# Altium schematic symbol library Schematic library.SchLib: 10 symbols
Pins are listed as number, name and electrical type; pins without a type are passive.

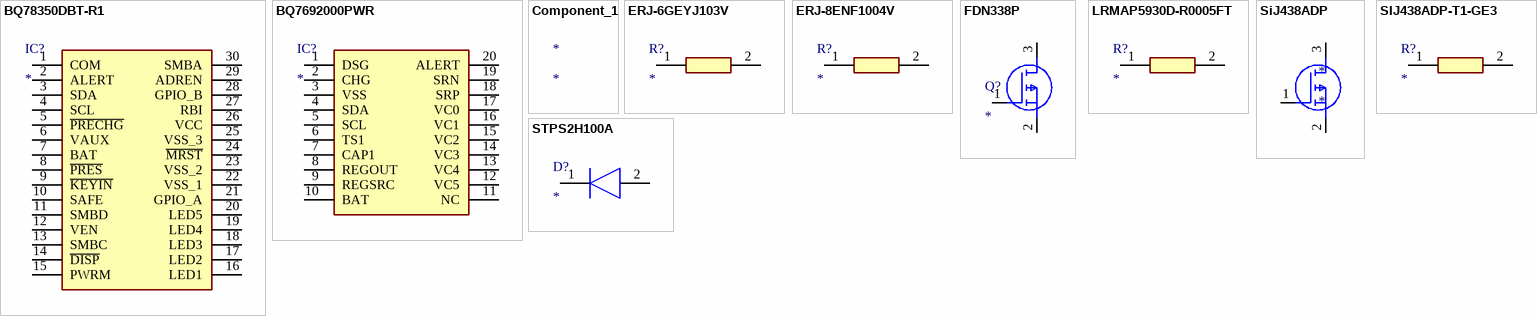
[diagram p0: symbols BQ78350DBT-R1 to STPS2H100A]

## BQ78350DBT-R1
designator IC?
Integrated Circuit; Manufacturer_Name: Texas Instruments; Manufacturer_Part_Number: BQ78350DBT-R1; Datasheet Link: http://www.ti.com/lit/ds/symlink/bq78350-r1.pdf; Height: 1.2mm; Mouser Part Number: 595-BQ78350DBT-R1; Mouser Price/Stock: https://www.mouser.co.uk/ProductDetail/Texas-Instruments/BQ78350DBT-R1?qs=yajEpaT76uQsatHsVfjOmw%3D%3D; Arrow Part Number: BQ78350DBT-R1; Arrow Price/Stock: https://www.arrow.com/en/products/bq78350dbt-r1/texas-instruments
footprint SOP50P640X120-30N
pins: 1 COM, 2 ALERT, 3 SDA, 4 SCL, 5 ~{PRECHG}, 6 VAUX, 7 BAT, 8 ~{PRES}, 9 ~{KEYIN}, 10 SAFE, 11 SMBD, 12 VEN, 13 SMBC, 14 ~{DISP}, 15 PWRM, 16 LED1, 17 LED2, 18 LED3, 19 LED4, 20 LED5, 21 GPIO_A, 22 VSS_1, 23 VSS_2, 24 ~{MRST}, 25 VSS_3, 26 VCC, 27 RBI, 28 GPIO_B, 29 ADREN, 30 SMBA

## BQ7692000PWR
designator IC?
Integrated Circuit; Manufacturer_Name: Texas Instruments; Manufacturer_Part_Number: BQ7692000PWR; Datasheet Link: http://www.ti.com/lit/gpn/bq76920; Height: 1.2mm; Mouser Part Number: 595-BQ7692000PWR; Mouser Price/Stock: https://www.mouser.co.uk/ProductDetail/Texas-Instruments/BQ7692000PWR?qs=%2Fd%252BFzHvH4c0MjFeRoItEJg%3D%3D; Arrow Part Number: BQ7692000PWR; Arrow Price/Stock: https://www.arrow.com/en/products/bq7692000pwr/texas-instruments
footprint SOP65P640X120-20N
pins: 1 DSG, 2 CHG, 3 VSS, 4 SDA, 5 SCL, 6 TS1, 7 CAP1, 8 REGOUT, 9 REGSRC, 10 BAT, 11 NC, 12 VC5, 13 VC4, 14 VC3, 15 VC2, 16 VC1, 17 VC0, 18 SRP, 19 SRN, 20 ALERT

## Component_1
designator *

## ERJ-6GEYJ103V
designator R?
Resistor; Manufacturer_Name: Panasonic; Manufacturer_Part_Number: ERJ-6GEYJ103V; Height: 0.7mm
footprint RESC2012X70N
pins: 1, 2

## ERJ-8ENF1004V
designator R?
Resistor; Manufacturer_Name: Panasonic; Manufacturer_Part_Number: ERJ-8ENF1004V; Datasheet Link: https://industrial.panasonic.com/cdbs/www-data/pdf/RDA0000/AOA0000C86.pdf; Height: 0.7mm
footprint RESC3116X70N
pins: 1, 2

## FDN338P
designator Q?
MOSFET (P-Channel); Manufacturer_Name: ON Semiconductor; Manufacturer_Part_Number: FDN338P; Height: 1.12mm
footprint SOT95P237X112-3N
pins: 1 G, 2 S, 3 D

## LRMAP5930D-R0005FT
designator R?
Resistor; Manufacturer_Name: TT ELECTRONICS / WELWYN; Manufacturer_Part_Number: LRMAP5930D-R0005FT; Datasheet Link: https://componentsearchengine.com/Datasheets/2/LRMAP5930D-R0005FT.pdf; Height: 1.57mm
footprint RESC15078X157N
pins: 1, 2

## SiJ438ADP
designator *
pins: 1 G, 2 S, 3 D

## SIJ438ADP-T1-GE3
designator R?
Resistor; Manufacturer_Name: Vishay; Manufacturer_Part_Number: SIJ438ADP-T1-GE3; Datasheet Link: https://ms.componentsearchengine.com/Datasheets/2/SIJ438ADP-T1-GE3.pdf; Height: 0.838mm
footprint RESC2013X84N
pins: 1, 2

## STPS2H100A
designator D?
Diode; Manufacturer_Name: STMicroelectronics; Manufacturer_Part_Number: STPS2H100A; Datasheet Link: https://componentsearchengine.com//STPS2H100A.pdf; Height: 2.65mm; Mouser2 Part Number: 511-STPS2H100A; Mouser2 Price/Stock: https://www.mouser.com/Search/Refine.aspx?Keyword=511-STPS2H100A
footprint DIOM5126X265N
pins: 1 K, 2 A